# EAGLE library part 760871431 (library WE-OLSTM)
WE-OLSTM Offline Flyback Transformers Characteristics Nominal input voltage: 85–265 VAC (120–375 VDC) Operating temperature: –40 °C to +125 °C Isolation voltage: 2 kVAC up to 5 kVAC Multiple output options Options for fixed frequency or quasi-resonant mode operation Most products meet reinforced insulation Applications Offline-switch mode power supplies Especially designed for several ICs from STMicroelectronics Auxiliary power supply Home appliances Consumer electronics <https://www.we-online.com/components/media/o781306v209%20FAMILY-MID-OLSTM.jpg> Details see: www.we-online.com/en/components/products/WE-OLSTM <www.we-online.com/en/components/products/WE-OLSTM/?utm_source=eagle_model&utm_medium=description_link&utm_campaign=eisos_eagle> Created by Leviosa 2024-04-15 2024(C) Wurth Elektronik
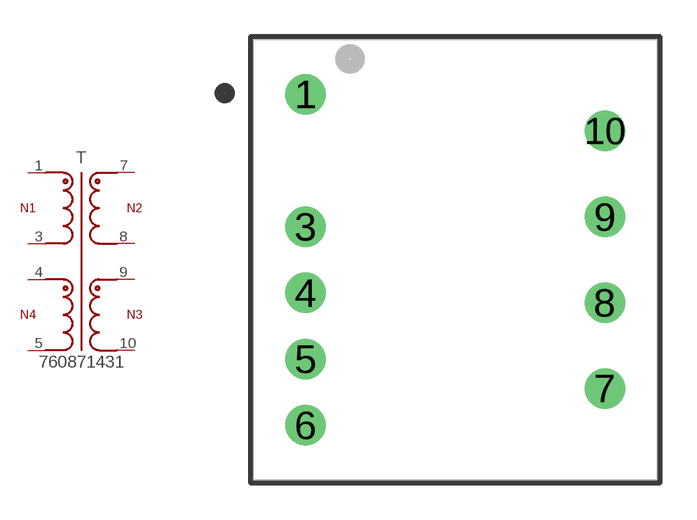
[diagram p23: symbol with the pads of WE-OLSTM_EE16_760871431; footprint WE-OLSTM_EE16_760871431]

Designator prefix T

## 760871431 (DATASHEET-URL: https://www.we-online.com/redexpert/spec/760871431?ae; FSWITCH: 55kHz; IOUT1: 150mA; IOUT2: 420mA; L: 2mH; MOUNT: THT; N: 27.67:1:3.17:1.22; PART-NUMBER: 760871431; SIZE: EE16/7/5; VALUE: 760871431; VAUX: 12V; VIN: 88 - 265 V (AC); VOUT1: 4.5V; VOUT2: 13V; VT: 4500V(AC))  [WE-OLSTM_EE16_760871431]
1  1  pas
3  3  pas
4  4  pas
5  5  pas
7  7  pas
8  8  pas
9  9  pas
10  10  pas

## Footprint WE-OLSTM_EE16_760871431 (pad centres in mm)
WE-OLSTM Offline Flyback Transformers for STMicroelectronics Size: EE16, THT, 9Pins LXWXH=18X16.5X18mm
drill 1.1: 1 -6.1,6.75; 3 -6.1,1.35; 4 -6.1,-1.35; 5 -6.1,-4.05; 6 -6.1,-6.75; 7 6.1,-5.25; 8 6.1,-1.75; 9 6.1,1.75; 10 6.1,5.25